# Altium schematic symbol library kmilo17pet-TI_BattMgmt.SchLib: 950 symbols (part 8 of 60)
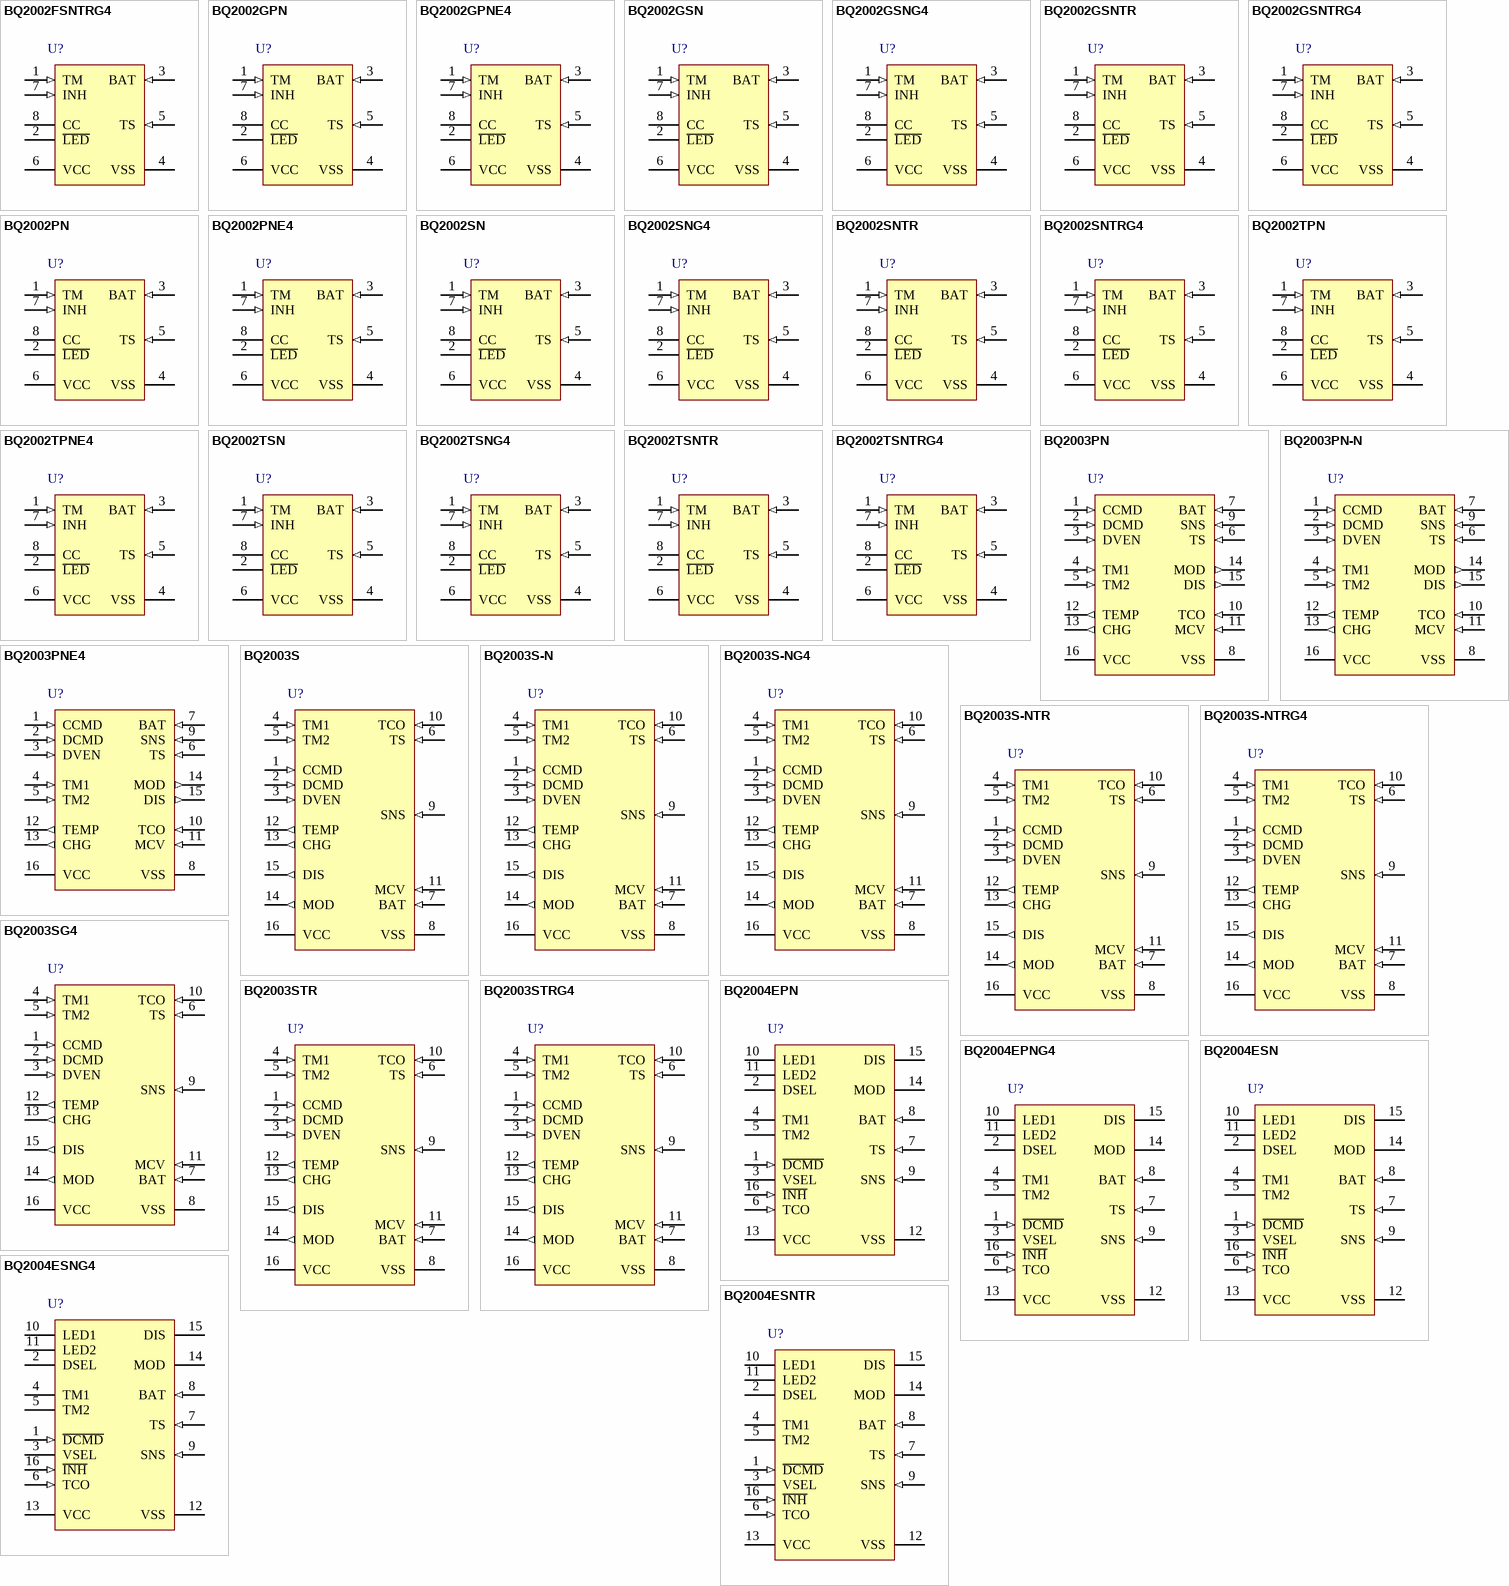
[diagram p41: symbols BQ2002FSNTRG4 to BQ2004ESNTR]

## BQ2002TPNE4
designator U?
NiCd / NiMH Charge Controller with dT/ dt Termination, 4 V, 0 to 70 degC, 8-pin PDIP (P), Pb-Free (RoHS); PartNumber: BQ2002TPNE4; Manufacturer: Texas Instruments; Lead Acid: N; NiCd: Y; SubFamily: Battery Charge Management; Vin(Min)(V): 4; DatasheetVersion: SLUS133; PackageVersion: revE, Apr-2010; PackageReference: P8; PackageDescription: 8-Pin Plastic Dual-In-Line Package, Row Spacing 7.62 mm, Pitch 2.54 mm; Supplier 1: Digi-Key; Supplier Part Number 1: BQ2002TPNE4-ND; Supplier Part Number 3: 595-BQ2002TPNE4; Eco-Plan: Pb-Free (RoHS); Li-Ion: N; Li-Polymer: N; NiMH: Y; Over Voltage Protection: N; Mounting Technology: Through Hole; Code_JEDEC: MS-001-BA; ComponentLink1Description: Datasheet; ComponentLink1URL: http://www.ti.com/general/docs/lit/getliterature.tsp?genericPartNumber=BQ2002T&fileType=pdf
footprint P8 (DIP, 8-Leads, Row Spacing 7.62mm, Pitch 2.54mm, Body 9.6x6.4mm)
pins: 1 TM (in) "Timer mode input. A three-level input that controls the settings for the fast charge safety timer, voltage termination mode, top-off, pulse-trickle, and voltage hold-off time.", 2 ~{LED} (hiz) "Charging output status. Open-drain output that indicates the charging status.", 3 BAT (in) "Battery input voltage. The battery voltage sense input. The input to this pin is created by a high-impedance resistor divider network connected between the positive and negative terminals of the battery.", 4 VSS (power) "System ground.", 5 TS (in) "Temperature sense input. Input for an external battery temperature monitoring thermistor.", 6 VCC (power) "Supply voltage input. 5.0V+/-20% power input.", 7 INH (in) "Charge inhibit input. When high, INH suspends the fast charge in progress. When returned low, the IC resumes operation at the point where initially suspended.", 8 CC (hiz) "Charge control output. An open-drain output used to control the charging current to the battery. CC switching to high impedance (Z) enables charging current to flow, and low to inhibit charging current. CC is modulated to (See Datasheet)"

## BQ2002TSN
designator U?
NiCd / NiMH Charge Controller with dT / dt Termination, 4 V, 0 to 70 degC, 8-pin SOIC (D), Green (RoHS & no Sb/Br); PartNumber: BQ2002TSN; Manufacturer: Texas Instruments; Lead Acid: N; NiCd: Y; SubFamily: Battery Charge Management; Vin(Min)(V): 4; DatasheetVersion: SLUS133; PackageVersion: revM, Jun-2011; PackageReference: D8; PackageDescription: 8-Pin Plastic Small Outline Integrated Circuit, 4.9 x 3.9 mm, Pitch 1.27 mm Pitch; Supplier 1: Digi-Key; Supplier Part Number 1: 296-9329-5-ND; Supplier Part Number 3: 74C7527; Eco-Plan: Green (RoHS & no Sb/Br); Li-Ion: N; Li-Polymer: N; NiMH: Y; Over Voltage Protection: N; Mounting Technology: Surface Mount; Code_JEDEC: MS-012AA; ComponentLink1Description: Datasheet; ComponentLink1URL: http://www.ti.com/general/docs/lit/getliterature.tsp?genericPartNumber=BQ2002T&fileType=pdf
footprint D8_N (SOIC, 8-Leads, Body 4.9x3.9mm, Pitch 1.27mm, IPC Medium Density)
footprint D8_L (SOIC, 8-Leads, Body 4.9x3.9mm, Pitch 1.27mm, IPC High Density)
footprint D8_M (SOIC, 8-Leads, Body 4.9x3.9mm, Pitch 1.27mm, IPC Low Density)
pins: 1 TM (in) "Timer mode input. A three-level input that controls the settings for the fast charge safety timer, voltage termination mode, top-off, pulse-trickle, and voltage hold-off time.", 2 ~{LED} (hiz) "Charging output status. Open-drain output that indicates the charging status.", 3 BAT (in) "Battery input voltage. The battery voltage sense input. The input to this pin is created by a high-impedance resistor divider network connected between the positive and negative terminals of the battery.", 4 VSS (power) "System ground.", 5 TS (in) "Temperature sense input. Input for an external battery temperature monitoring thermistor.", 6 VCC (power) "Supply voltage input. 5.0V+/-20% power input.", 7 INH (in) "Charge inhibit input. When high, INH suspends the fast charge in progress. When returned low, the IC resumes operation at the point where initially suspended.", 8 CC (hiz) "Charge control output. An open-drain output used to control the charging current to the battery. CC switching to high impedance (Z) enables charging current to flow, and low to inhibit charging current. CC is modulated to (See Datasheet)"

## BQ2002TSNG4
designator U?
NiCd / NiMH Charge Controller with dT / dt Termination, 4 V, 0 to 70 degC, 8-pin SOIC (D), Green (RoHS & no Sb/Br); PartNumber: BQ2002TSNG4; Manufacturer: Texas Instruments; Lead Acid: N; NiCd: Y; SubFamily: Battery Charge Management; Vin(Min)(V): 4; DatasheetVersion: SLUS133; PackageVersion: revM, Jun-2011; PackageReference: D8; PackageDescription: 8-Pin Plastic Small Outline Integrated Circuit, 4.9 x 3.9 mm, Pitch 1.27 mm Pitch; Supplier 1: Digi-Key; Supplier Part Number 1: BQ2002TSNG4-ND; Supplier Part Number 3: 595-BQ2002TSNG4; Eco-Plan: Green (RoHS & no Sb/Br); Li-Ion: N; Li-Polymer: N; NiMH: Y; Over Voltage Protection: N; Mounting Technology: Surface Mount; Code_JEDEC: MS-012AA; ComponentLink1Description: Datasheet; ComponentLink1URL: http://www.ti.com/general/docs/lit/getliterature.tsp?genericPartNumber=BQ2002T&fileType=pdf
footprint D8_N (SOIC, 8-Leads, Body 4.9x3.9mm, Pitch 1.27mm, IPC Medium Density)
footprint D8_L (SOIC, 8-Leads, Body 4.9x3.9mm, Pitch 1.27mm, IPC High Density)
footprint D8_M (SOIC, 8-Leads, Body 4.9x3.9mm, Pitch 1.27mm, IPC Low Density)
pins: 1 TM (in) "Timer mode input. A three-level input that controls the settings for the fast charge safety timer, voltage termination mode, top-off, pulse-trickle, and voltage hold-off time.", 2 ~{LED} (hiz) "Charging output status. Open-drain output that indicates the charging status.", 3 BAT (in) "Battery input voltage. The battery voltage sense input. The input to this pin is created by a high-impedance resistor divider network connected between the positive and negative terminals of the battery.", 4 VSS (power) "System ground.", 5 TS (in) "Temperature sense input. Input for an external battery temperature monitoring thermistor.", 6 VCC (power) "Supply voltage input. 5.0V+/-20% power input.", 7 INH (in) "Charge inhibit input. When high, INH suspends the fast charge in progress. When returned low, the IC resumes operation at the point where initially suspended.", 8 CC (hiz) "Charge control output. An open-drain output used to control the charging current to the battery. CC switching to high impedance (Z) enables charging current to flow, and low to inhibit charging current. CC is modulated to (See Datasheet)"

## BQ2002TSNTR
designator U?
NiCd / NiMH Charge Controller with dT / dt Termination, 4 V, 0 to 70 degC, 8-pin SOIC (D), Green (RoHS & no Sb/Br); PartNumber: BQ2002TSNTR; Manufacturer: Texas Instruments; Lead Acid: N; NiCd: Y; SubFamily: Battery Charge Management; Vin(Min)(V): 4; DatasheetVersion: SLUS133; PackageVersion: revM, Jun-2011; PackageReference: D8; PackageDescription: 8-Pin Plastic Small Outline Integrated Circuit, 4.9 x 3.9 mm, Pitch 1.27 mm Pitch; Supplier 1: Digi-Key; Supplier Part Number 1: BQ2002TSNTR-ND; Supplier Part Number 3: 595-BQ2002TSNTR; Eco-Plan: Green (RoHS & no Sb/Br); Li-Ion: N; Li-Polymer: N; NiMH: Y; Over Voltage Protection: N; Mounting Technology: Surface Mount; Code_JEDEC: MS-012AA; ComponentLink1Description: Datasheet; ComponentLink1URL: http://www.ti.com/general/docs/lit/getliterature.tsp?genericPartNumber=BQ2002T&fileType=pdf
footprint D8_N (SOIC, 8-Leads, Body 4.9x3.9mm, Pitch 1.27mm, IPC Medium Density)
footprint D8_L (SOIC, 8-Leads, Body 4.9x3.9mm, Pitch 1.27mm, IPC High Density)
footprint D8_M (SOIC, 8-Leads, Body 4.9x3.9mm, Pitch 1.27mm, IPC Low Density)
pins: 1 TM (in) "Timer mode input. A three-level input that controls the settings for the fast charge safety timer, voltage termination mode, top-off, pulse-trickle, and voltage hold-off time.", 2 ~{LED} (hiz) "Charging output status. Open-drain output that indicates the charging status.", 3 BAT (in) "Battery input voltage. The battery voltage sense input. The input to this pin is created by a high-impedance resistor divider network connected between the positive and negative terminals of the battery.", 4 VSS (power) "System ground.", 5 TS (in) "Temperature sense input. Input for an external battery temperature monitoring thermistor.", 6 VCC (power) "Supply voltage input. 5.0V+/-20% power input.", 7 INH (in) "Charge inhibit input. When high, INH suspends the fast charge in progress. When returned low, the IC resumes operation at the point where initially suspended.", 8 CC (hiz) "Charge control output. An open-drain output used to control the charging current to the battery. CC switching to high impedance (Z) enables charging current to flow, and low to inhibit charging current. CC is modulated to (See Datasheet)"

## BQ2002TSNTRG4
designator U?
NiCd / NiMH Charge Controller with dT / dt Termination, 4 V, 0 to 70 degC, 8-pin SOIC (D), Green (RoHS & no Sb/Br); PartNumber: BQ2002TSNTRG4; Manufacturer: Texas Instruments; Lead Acid: N; NiCd: Y; SubFamily: Battery Charge Management; Vin(Min)(V): 4; DatasheetVersion: SLUS133; PackageVersion: revM, Jun-2011; PackageReference: D8; PackageDescription: 8-Pin Plastic Small Outline Integrated Circuit, 4.9 x 3.9 mm, Pitch 1.27 mm Pitch; Supplier 1: Digi-Key; Supplier Part Number 1: BQ2002TSNTRG4-ND; Supplier Part Number 3: 595-BQ2002TSNTRG4; Eco-Plan: Green (RoHS & no Sb/Br); Li-Ion: N; Li-Polymer: N; NiMH: Y; Over Voltage Protection: N; Mounting Technology: Surface Mount; Code_JEDEC: MS-012AA; ComponentLink1Description: Datasheet; ComponentLink1URL: http://www.ti.com/general/docs/lit/getliterature.tsp?genericPartNumber=BQ2002T&fileType=pdf
footprint D8_N (SOIC, 8-Leads, Body 4.9x3.9mm, Pitch 1.27mm, IPC Medium Density)
footprint D8_L (SOIC, 8-Leads, Body 4.9x3.9mm, Pitch 1.27mm, IPC High Density)
footprint D8_M (SOIC, 8-Leads, Body 4.9x3.9mm, Pitch 1.27mm, IPC Low Density)
pins: 1 TM (in) "Timer mode input. A three-level input that controls the settings for the fast charge safety timer, voltage termination mode, top-off, pulse-trickle, and voltage hold-off time.", 2 ~{LED} (hiz) "Charging output status. Open-drain output that indicates the charging status.", 3 BAT (in) "Battery input voltage. The battery voltage sense input. The input to this pin is created by a high-impedance resistor divider network connected between the positive and negative terminals of the battery.", 4 VSS (power) "System ground.", 5 TS (in) "Temperature sense input. Input for an external battery temperature monitoring thermistor.", 6 VCC (power) "Supply voltage input. 5.0V+/-20% power input.", 7 INH (in) "Charge inhibit input. When high, INH suspends the fast charge in progress. When returned low, the IC resumes operation at the point where initially suspended.", 8 CC (hiz) "Charge control output. An open-drain output used to control the charging current to the battery. CC switching to high impedance (Z) enables charging current to flow, and low to inhibit charging current. CC is modulated to (See Datasheet)"

## BQ2003PN
designator U?
Switch-Mode NiCd / NiMH Battery Charger with Negative dV and dT / dt Termination, 4.5 V, 0 to 70 degC, 16-pin PDIP (N), Pb-Free (RoHS); PartNumber: BQ2003PN; Manufacturer: Texas Instruments; NiCd: Y; SubFamily: Battery Charge Management; Vin(Min)(V): 4.5; DatasheetVersion: SLUS095A; PackageVersion: revE, Dec-2002; PackageReference: N16; PackageDescription: 16-Pin Plastic Dual-In-Line Package, Row Spacing 7.62 mm, Pitch 2.54 mm; Supplier 1: Digi-Key; Supplier Part Number 1: 296-9330-5-ND; Supplier Part Number 3: 67T1028; Eco-Plan: Pb-Free (RoHS); Lead Acid: N; Li-Ion: N; Li-Polymer: N; NiMH: Y; Over Voltage Protection: N; Mounting Technology: Through Hole; Code_JEDEC: MS-001*; ComponentLink1Description: Datasheet; ComponentLink1URL: http://www.ti.com/general/docs/lit/getliterature.tsp?genericPartNumber=BQ2003&fileType=pdf
footprint N16 (DIP, 16-Leads, Row Spacing 7.62mm, Pitch 2.54mm, Body 19.3x6.4mm)
pins: 1 CCMD (in) "This input control the conditions that begin a new charge cycle and enable discharge-before-charge. See Table 1.", 2 DCMD (in) "This input control the conditions that begin a new charge cycle and enable discharge-before-charge. See Table 1.", 3 DVEN (in) "This input enales/disables -deltaV charge termination.If DVEN is high, the -deltaV test is enabled.If DVEN is low, -deltaV test is disabled. The state of DVEN may be changed at any time.", 4 TM1 (in) "TM1 is three-state input that configure the fast charge safety timer, -deltaV holdoff time, and that enhance/disable top-off.See Table 2.", 5 TM2 (in) "TM2 is three-state input that configure the fast charge safety timer, -deltaV holdoff time, and that enhance/disable top-off.See Table 2.", 6 TS (in) "Input, referenced to SNS, for an external thermistor monitoring battery temperature.", 7 BAT (in) "The battery voltage sense input, referenced to SNS. This is created by a high-impedance resistor divider network connected between the positive and the negative terminals of the battery.", 8 VSS (power) "Ground", 9 SNS (in) "SNS controls the switching of MOD based on the voltage across an external sense resistor in the current path of the battery. SNS is the reference potential for the TS and BAT pins.If SNS is connected to VSS, MOD switches (See Datasheet)", 10 TCO (in) "Input to set maximum allowable battery temperature. If the potential between TS and SNS is less than the voltage at the TCO input, then fast charge or top-off charge is terminated.", 11 MCV (in) "Input to set maximum single-cell equivalent voltage. If the voltage between BAT and SNS is greater than or equal to the voltage at the MCV input, then fast charge or top-off charge is inhibited.", 12 TEMP (out) "Push-pull output indicating temperature status. TEMP is low if the voltage at the TS pis not within the allowed range to start fast charge.", 13 CHG (out) "Push-pull output indicating charging status.See Figure 1.", 14 MOD (out) "MOD is a push/pull output that is used to control the charging current to the battery.MOD switches high to enable charging current flow and low to inhibit charging current flow.", 15 DIS (out) "Push-pull output used to control an external transistor to discharge the battery before charging.", 16 VCC (power) "5.0 V, +/-10% power input."

## BQ2003PN-N
designator U?
Switch-Mode NiCd / NiMH Battery Charger with Negative dV and dT / dt Termination, 4.5 V, -40 to 85 degC, 16-pin PDIP (N), Pb-Free (RoHS); PartNumber: BQ2003PN-N; Manufacturer: Texas Instruments; NiCd: Y; SubFamily: Battery Charge Management; Vin(Min)(V): 4.5; DatasheetVersion: SLUS095A; PackageVersion: revE, Dec-2002; PackageReference: N16; PackageDescription: 16-Pin Plastic Dual-In-Line Package, Row Spacing 7.62 mm, Pitch 2.54 mm; Supplier 1: Digi-Key; Supplier Part Number 1: 296-32831-5-ND; Supplier Part Number 3: 595-BQ2003PN-N; Eco-Plan: Pb-Free (RoHS); Lead Acid: N; Li-Ion: N; Li-Polymer: N; NiMH: Y; Over Voltage Protection: N; Mounting Technology: Through Hole; Code_JEDEC: MS-001*; ComponentLink1Description: Datasheet; ComponentLink1URL: http://www.ti.com/general/docs/lit/getliterature.tsp?genericPartNumber=BQ2003&fileType=pdf
footprint N16 (DIP, 16-Leads, Row Spacing 7.62mm, Pitch 2.54mm, Body 19.3x6.4mm)
pins: 1 CCMD (in) "This input control the conditions that begin a new charge cycle and enable discharge-before-charge. See Table 1.", 2 DCMD (in) "This input control the conditions that begin a new charge cycle and enable discharge-before-charge. See Table 1.", 3 DVEN (in) "This input enales/disables -deltaV charge termination.If DVEN is high, the -deltaV test is enabled.If DVEN is low, -deltaV test is disabled. The state of DVEN may be changed at any time.", 4 TM1 (in) "TM1 is three-state input that configure the fast charge safety timer, -deltaV holdoff time, and that enhance/disable top-off.See Table 2.", 5 TM2 (in) "TM2 is three-state input that configure the fast charge safety timer, -deltaV holdoff time, and that enhance/disable top-off.See Table 2.", 6 TS (in) "Input, referenced to SNS, for an external thermistor monitoring battery temperature.", 7 BAT (in) "The battery voltage sense input, referenced to SNS. This is created by a high-impedance resistor divider network connected between the positive and the negative terminals of the battery.", 8 VSS (power) "Ground", 9 SNS (in) "SNS controls the switching of MOD based on the voltage across an external sense resistor in the current path of the battery. SNS is the reference potential for the TS and BAT pins.If SNS is connected to VSS, MOD switches (See Datasheet)", 10 TCO (in) "Input to set maximum allowable battery temperature. If the potential between TS and SNS is less than the voltage at the TCO input, then fast charge or top-off charge is terminated.", 11 MCV (in) "Input to set maximum single-cell equivalent voltage. If the voltage between BAT and SNS is greater than or equal to the voltage at the MCV input, then fast charge or top-off charge is inhibited.", 12 TEMP (out) "Push-pull output indicating temperature status. TEMP is low if the voltage at the TS pis not within the allowed range to start fast charge.", 13 CHG (out) "Push-pull output indicating charging status.See Figure 1.", 14 MOD (out) "MOD is a push/pull output that is used to control the charging current to the battery.MOD switches high to enable charging current flow and low to inhibit charging current flow.", 15 DIS (out) "Push-pull output used to control an external transistor to discharge the battery before charging.", 16 VCC (power) "5.0 V, +/-10% power input."

## BQ2003PNE4
designator U?
Switch-Mode NiCd / NiMH Battery Charger with Negative dV and dT / dt Termination, 4.5 V, 0 to 70 degC, 16-pin PDIP (N), Pb-Free (RoHS); PartNumber: BQ2003PNE4; Manufacturer: Texas Instruments; NiCd: Y; SubFamily: Battery Charge Management; Vin(Min)(V): 4.5; DatasheetVersion: SLUS095A; PackageVersion: revE, Dec-2002; PackageReference: N16; PackageDescription: 16-Pin Plastic Dual-In-Line Package, Row Spacing 7.62 mm, Pitch 2.54 mm; Supplier 1: Digi-Key; Supplier Part Number 1: BQ2003PNE4-ND; Supplier Part Number 3: 595-BQ2003PNE4; Eco-Plan: Pb-Free (RoHS); Lead Acid: N; Li-Ion: N; Li-Polymer: N; NiMH: Y; Over Voltage Protection: N; Mounting Technology: Through Hole; Code_JEDEC: MS-001*; ComponentLink1Description: Datasheet; ComponentLink1URL: http://www.ti.com/general/docs/lit/getliterature.tsp?genericPartNumber=BQ2003&fileType=pdf
footprint N16 (DIP, 16-Leads, Row Spacing 7.62mm, Pitch 2.54mm, Body 19.3x6.4mm)
pins: 1 CCMD (in) "This input control the conditions that begin a new charge cycle and enable discharge-before-charge. See Table 1.", 2 DCMD (in) "This input control the conditions that begin a new charge cycle and enable discharge-before-charge. See Table 1.", 3 DVEN (in) "This input enales/disables -deltaV charge termination.If DVEN is high, the -deltaV test is enabled.If DVEN is low, -deltaV test is disabled. The state of DVEN may be changed at any time.", 4 TM1 (in) "TM1 is three-state input that configure the fast charge safety timer, -deltaV holdoff time, and that enhance/disable top-off.See Table 2.", 5 TM2 (in) "TM2 is three-state input that configure the fast charge safety timer, -deltaV holdoff time, and that enhance/disable top-off.See Table 2.", 6 TS (in) "Input, referenced to SNS, for an external thermistor monitoring battery temperature.", 7 BAT (in) "The battery voltage sense input, referenced to SNS. This is created by a high-impedance resistor divider network connected between the positive and the negative terminals of the battery.", 8 VSS (power) "Ground", 9 SNS (in) "SNS controls the switching of MOD based on the voltage across an external sense resistor in the current path of the battery. SNS is the reference potential for the TS and BAT pins.If SNS is connected to VSS, MOD switches (See Datasheet)", 10 TCO (in) "Input to set maximum allowable battery temperature. If the potential between TS and SNS is less than the voltage at the TCO input, then fast charge or top-off charge is terminated.", 11 MCV (in) "Input to set maximum single-cell equivalent voltage. If the voltage between BAT and SNS is greater than or equal to the voltage at the MCV input, then fast charge or top-off charge is inhibited.", 12 TEMP (out) "Push-pull output indicating temperature status. TEMP is low if the voltage at the TS pis not within the allowed range to start fast charge.", 13 CHG (out) "Push-pull output indicating charging status.See Figure 1.", 14 MOD (out) "MOD is a push/pull output that is used to control the charging current to the battery.MOD switches high to enable charging current flow and low to inhibit charging current flow.", 15 DIS (out) "Push-pull output used to control an external transistor to discharge the battery before charging.", 16 VCC (power) "5.0 V, +/-10% power input."

## BQ2003S
designator U?
Switch-Mode NiCd / NiMH Battery Charger with Negative dV and dT / dt Termination, 4.5 V, 0 to 70 degC, 16-pin SOIC (DW), Green (RoHS & no Sb/Br); PartNumber: BQ2003S; Manufacturer: Texas Instruments; Lead Acid: N; NiCd: Y; SubFamily: Battery Charge Management; Vin(Min)(V): 4.5; DatasheetVersion: SLUS095A; PackageVersion: revG, Jan-2011; PackageReference: DW16; PackageDescription: 16-Pin Small Outline Integrated Circuit, 10.3 x 7.5 mm, Pitch 1.27 mm Pitch; Supplier 1: Digi-Key; Supplier Part Number 1: 296-9331-5-ND; Supplier Part Number 3: 595-BQ2003S; Eco-Plan: Green (RoHS & no Sb/Br); Li-Ion: N; Li-Polymer: N; NiMH: Y; Over Voltage Protection: N; Mounting Technology: Surface Mount; Code_JEDEC: MS-013-AA; ComponentLink1Description: Datasheet; ComponentLink1URL: http://www.ti.com/general/docs/lit/getliterature.tsp?genericPartNumber=BQ2003&fileType=pdf
footprint DW16_N (SOIC, 16-Leads, Body 10.3x7.5mm, Pitch 1.27mm, IPC Medium Density)
footprint DW16_L (SOIC, 16-Leads, Body 10.3x7.5mm, Pitch 1.27mm, IPC High Density)
footprint DW16_M (SOIC, 16-Leads, Body 10.3x7.5mm, Pitch 1.27mm, IPC Low Density)
pins: 1 CCMD (in) "These two inputs control the conditions that begin a new charge cycle and enable discharge-before-charge. See Table 1.", 2 DCMD (in) "These two inputs control the conditions that begin a new charge cycle and enable discharge-before-charge. See Table 1.", 3 DVEN (in) "This input enales/disables -deltaV charge termination.If DVEN is high, the -deltaV test is enabled.If DVEN is low, -deltaV test is disabled. The state of DVEN may be changed at any time.", 4 TM1 (in) "TM1 is three-state input that configure the fast charge safety timer, -deltaV holdoff time, and that enhance/disable top-off.See Table 2.", 5 TM2 (in) "TM2 is three-state input that configure the fast charge safety timer, -deltaV holdoff time, and that enhance/disable top-off.See Table 2.", 6 TS (in) "Input, referenced to SNS, for an external thermistor monitoring battery temperature.", 7 BAT (in) "The battery voltage sense input, referenced to SNS. This is created by a high-impedance resistor divider network connected between the positive and the negative terminals of the battery.", 8 VSS (power) "Ground", 9 SNS (in) "SNS controls the switching of MOD based on the voltage across an external sense resistor in the current path of the battery. SNS is the reference potential for the TS and BAT pins.If SNS is connected to VSS, MOD switches (See Datasheet)", 10 TCO (in) "Input to set maximum allowable battery temperature. If the potential between TS and SNS is less than the voltage at the TCO input, then fast charge or top-off charge is terminated.", 11 MCV (in) "Input to set maximum single-cell equivalent voltage. If the voltage between BAT and SNS is greater than or equal to the voltage at the MCV input, then fast charge or top-off charge is inhibited.", 12 TEMP (out) "Push-pull output indicating temperature status. TEMP is low if the voltage at the TS pis not within the allowed range to start fast charge.", 13 CHG (out) "Push-pull output indicating charging status.See Figure 1.", 14 MOD (out) "MOD is a push/pull output that is used to control the charging current to the battery.MOD switches high to enable charging current flow and low to inhibit charging current flow.", 15 DIS (out) "Push-pull output used to control an external transistor to discharge the battery before charging.", 16 VCC (power) "5.0 V, +/-10% power input."

## BQ2003S-N
designator U?
Switch-Mode NiCd / NiMH Battery Charger with Negative dV and dT / dt Termination, 4.5 V, -40 to 85 degC, 16-pin SOIC (DW), Green (RoHS & no Sb/Br); PartNumber: BQ2003S-N; Manufacturer: Texas Instruments; Lead Acid: N; NiCd: Y; SubFamily: Battery Charge Management; Vin(Min)(V): 4.5; DatasheetVersion: SLUS095A; PackageVersion: revG, Jan-2011; PackageReference: DW16; PackageDescription: 16-Pin Small Outline Integrated Circuit, 10.3 x 7.5 mm, Pitch 1.27 mm Pitch; Supplier 1: Digi-Key; Supplier Part Number 1: 296-32832-5-ND; Supplier Part Number 3: 23M5237; Eco-Plan: Green (RoHS & no Sb/Br); Li-Ion: N; Li-Polymer: N; NiMH: Y; Over Voltage Protection: N; Mounting Technology: Surface Mount; Code_JEDEC: MS-013-AA; ComponentLink1Description: Datasheet; ComponentLink1URL: http://www.ti.com/general/docs/lit/getliterature.tsp?genericPartNumber=BQ2003&fileType=pdf
footprint DW16_N (SOIC, 16-Leads, Body 10.3x7.5mm, Pitch 1.27mm, IPC Medium Density)
footprint DW16_L (SOIC, 16-Leads, Body 10.3x7.5mm, Pitch 1.27mm, IPC High Density)
footprint DW16_M (SOIC, 16-Leads, Body 10.3x7.5mm, Pitch 1.27mm, IPC Low Density)
pins: 1 CCMD (in) "These two inputs control the conditions that begin a new charge cycle and enable discharge-before-charge. See Table 1.", 2 DCMD (in) "These two inputs control the conditions that begin a new charge cycle and enable discharge-before-charge. See Table 1.", 3 DVEN (in) "This input enales/disables -deltaV charge termination.If DVEN is high, the -deltaV test is enabled.If DVEN is low, -deltaV test is disabled. The state of DVEN may be changed at any time.", 4 TM1 (in) "TM1 is three-state input that configure the fast charge safety timer, -deltaV holdoff time, and that enhance/disable top-off.See Table 2.", 5 TM2 (in) "TM2 is three-state input that configure the fast charge safety timer, -deltaV holdoff time, and that enhance/disable top-off.See Table 2.", 6 TS (in) "Input, referenced to SNS, for an external thermistor monitoring battery temperature.", 7 BAT (in) "The battery voltage sense input, referenced to SNS. This is created by a high-impedance resistor divider network connected between the positive and the negative terminals of the battery.", 8 VSS (power) "Ground", 9 SNS (in) "SNS controls the switching of MOD based on the voltage across an external sense resistor in the current path of the battery. SNS is the reference potential for the TS and BAT pins.If SNS is connected to VSS, MOD switches (See Datasheet)", 10 TCO (in) "Input to set maximum allowable battery temperature. If the potential between TS and SNS is less than the voltage at the TCO input, then fast charge or top-off charge is terminated.", 11 MCV (in) "Input to set maximum single-cell equivalent voltage. If the voltage between BAT and SNS is greater than or equal to the voltage at the MCV input, then fast charge or top-off charge is inhibited.", 12 TEMP (out) "Push-pull output indicating temperature status. TEMP is low if the voltage at the TS pis not within the allowed range to start fast charge.", 13 CHG (out) "Push-pull output indicating charging status.See Figure 1.", 14 MOD (out) "MOD is a push/pull output that is used to control the charging current to the battery.MOD switches high to enable charging current flow and low to inhibit charging current flow.", 15 DIS (out) "Push-pull output used to control an external transistor to discharge the battery before charging.", 16 VCC (power) "5.0 V, +/-10% power input."

## BQ2003S-NG4
designator U?
Switch-Mode NiCd / NiMH Battery Charger with Negative dV and dT / dt Termination, 4.5 V, -40 to 85 degC, 16-pin SOIC (DW), Green (RoHS & no Sb/Br); PartNumber: BQ2003S-NG4; Manufacturer: Texas Instruments; Lead Acid: N; NiCd: Y; SubFamily: Battery Charge Management; Vin(Min)(V): 4.5; DatasheetVersion: SLUS095A; PackageVersion: revG, Jan-2011; PackageReference: DW16; PackageDescription: 16-Pin Small Outline Integrated Circuit, 10.3 x 7.5 mm, Pitch 1.27 mm Pitch; Supplier 1: Digi-Key; Supplier Part Number 1: BQ2003S-NG4-ND; Supplier Part Number 3: 595-BQ2003S-NG4; Eco-Plan: Green (RoHS & no Sb/Br); Li-Ion: N; Li-Polymer: N; NiMH: Y; Over Voltage Protection: N; Mounting Technology: Surface Mount; Code_JEDEC: MS-013-AA; ComponentLink1Description: Datasheet; ComponentLink1URL: http://www.ti.com/general/docs/lit/getliterature.tsp?genericPartNumber=BQ2003&fileType=pdf
footprint DW16_N (SOIC, 16-Leads, Body 10.3x7.5mm, Pitch 1.27mm, IPC Medium Density)
footprint DW16_L (SOIC, 16-Leads, Body 10.3x7.5mm, Pitch 1.27mm, IPC High Density)
footprint DW16_M (SOIC, 16-Leads, Body 10.3x7.5mm, Pitch 1.27mm, IPC Low Density)
pins: 1 CCMD (in) "These two inputs control the conditions that begin a new charge cycle and enable discharge-before-charge. See Table 1.", 2 DCMD (in) "These two inputs control the conditions that begin a new charge cycle and enable discharge-before-charge. See Table 1.", 3 DVEN (in) "This input enales/disables -deltaV charge termination.If DVEN is high, the -deltaV test is enabled.If DVEN is low, -deltaV test is disabled. The state of DVEN may be changed at any time.", 4 TM1 (in) "TM1 is three-state input that configure the fast charge safety timer, -deltaV holdoff time, and that enhance/disable top-off.See Table 2.", 5 TM2 (in) "TM2 is three-state input that configure the fast charge safety timer, -deltaV holdoff time, and that enhance/disable top-off.See Table 2.", 6 TS (in) "Input, referenced to SNS, for an external thermistor monitoring battery temperature.", 7 BAT (in) "The battery voltage sense input, referenced to SNS. This is created by a high-impedance resistor divider network connected between the positive and the negative terminals of the battery.", 8 VSS (power) "Ground", 9 SNS (in) "SNS controls the switching of MOD based on the voltage across an external sense resistor in the current path of the battery. SNS is the reference potential for the TS and BAT pins.If SNS is connected to VSS, MOD switches (See Datasheet)", 10 TCO (in) "Input to set maximum allowable battery temperature. If the potential between TS and SNS is less than the voltage at the TCO input, then fast charge or top-off charge is terminated.", 11 MCV (in) "Input to set maximum single-cell equivalent voltage. If the voltage between BAT and SNS is greater than or equal to the voltage at the MCV input, then fast charge or top-off charge is inhibited.", 12 TEMP (out) "Push-pull output indicating temperature status. TEMP is low if the voltage at the TS pis not within the allowed range to start fast charge.", 13 CHG (out) "Push-pull output indicating charging status.See Figure 1.", 14 MOD (out) "MOD is a push/pull output that is used to control the charging current to the battery.MOD switches high to enable charging current flow and low to inhibit charging current flow.", 15 DIS (out) "Push-pull output used to control an external transistor to discharge the battery before charging.", 16 VCC (power) "5.0 V, +/-10% power input."

## BQ2003S-NTR
designator U?
Switch-Mode NiCd / NiMH Battery Charger with Negative dV and dT / dt Termination, 4.5 V, -40 to 85 degC, 16-pin SOIC (DW), Green (RoHS & no Sb/Br); PartNumber: BQ2003S-NTR; Manufacturer: Texas Instruments; Lead Acid: N; NiCd: Y; SubFamily: Battery Charge Management; Vin(Min)(V): 4.5; DatasheetVersion: SLUS095A; PackageVersion: revG, Jan-2011; PackageReference: DW16; PackageDescription: 16-Pin Small Outline Integrated Circuit, 10.3 x 7.5 mm, Pitch 1.27 mm Pitch; Supplier 1: Digi-Key; Supplier Part Number 1: BQ2003S-NTR-ND; Supplier Part Number 3: 595-BQ2003S-NTR; Eco-Plan: Green (RoHS & no Sb/Br); Li-Ion: N; Li-Polymer: N; NiMH: Y; Over Voltage Protection: N; Mounting Technology: Surface Mount; Code_JEDEC: MS-013-AA; ComponentLink1Description: Datasheet; ComponentLink1URL: http://www.ti.com/general/docs/lit/getliterature.tsp?genericPartNumber=BQ2003&fileType=pdf
footprint DW16_N (SOIC, 16-Leads, Body 10.3x7.5mm, Pitch 1.27mm, IPC Medium Density)
footprint DW16_L (SOIC, 16-Leads, Body 10.3x7.5mm, Pitch 1.27mm, IPC High Density)
footprint DW16_M (SOIC, 16-Leads, Body 10.3x7.5mm, Pitch 1.27mm, IPC Low Density)
pins: 1 CCMD (in) "These two inputs control the conditions that begin a new charge cycle and enable discharge-before-charge. See Table 1.", 2 DCMD (in) "These two inputs control the conditions that begin a new charge cycle and enable discharge-before-charge. See Table 1.", 3 DVEN (in) "This input enales/disables -deltaV charge termination.If DVEN is high, the -deltaV test is enabled.If DVEN is low, -deltaV test is disabled. The state of DVEN may be changed at any time.", 4 TM1 (in) "TM1 is three-state input that configure the fast charge safety timer, -deltaV holdoff time, and that enhance/disable top-off.See Table 2.", 5 TM2 (in) "TM2 is three-state input that configure the fast charge safety timer, -deltaV holdoff time, and that enhance/disable top-off.See Table 2.", 6 TS (in) "Input, referenced to SNS, for an external thermistor monitoring battery temperature.", 7 BAT (in) "The battery voltage sense input, referenced to SNS. This is created by a high-impedance resistor divider network connected between the positive and the negative terminals of the battery.", 8 VSS (power) "Ground", 9 SNS (in) "SNS controls the switching of MOD based on the voltage across an external sense resistor in the current path of the battery. SNS is the reference potential for the TS and BAT pins.If SNS is connected to VSS, MOD switches (See Datasheet)", 10 TCO (in) "Input to set maximum allowable battery temperature. If the potential between TS and SNS is less than the voltage at the TCO input, then fast charge or top-off charge is terminated.", 11 MCV (in) "Input to set maximum single-cell equivalent voltage. If the voltage between BAT and SNS is greater than or equal to the voltage at the MCV input, then fast charge or top-off charge is inhibited.", 12 TEMP (out) "Push-pull output indicating temperature status. TEMP is low if the voltage at the TS pis not within the allowed range to start fast charge.", 13 CHG (out) "Push-pull output indicating charging status.See Figure 1.", 14 MOD (out) "MOD is a push/pull output that is used to control the charging current to the battery.MOD switches high to enable charging current flow and low to inhibit charging current flow.", 15 DIS (out) "Push-pull output used to control an external transistor to discharge the battery before charging.", 16 VCC (power) "5.0 V, +/-10% power input."

## BQ2003S-NTRG4
designator U?
Switch-Mode NiCd / NiMH Battery Charger with Negative dV and dT / dt Termination, 4.5 V, -40 to 85 degC, 16-pin SOIC (DW), Green (RoHS & no Sb/Br); PartNumber: BQ2003S-NTRG4; Manufacturer: Texas Instruments; Lead Acid: N; NiCd: Y; SubFamily: Battery Charge Management; Vin(Min)(V): 4.5; DatasheetVersion: SLUS095A; PackageVersion: revG, Jan-2011; PackageReference: DW16; PackageDescription: 16-Pin Small Outline Integrated Circuit, 10.3 x 7.5 mm, Pitch 1.27 mm Pitch; Supplier 1: Digi-Key; Supplier Part Number 1: BQ2003S-NTRG4-ND; Supplier Part Number 3: 595-BQ2003S-NTRG4; Eco-Plan: Green (RoHS & no Sb/Br); Li-Ion: N; Li-Polymer: N; NiMH: Y; Over Voltage Protection: N; Mounting Technology: Surface Mount; Code_JEDEC: MS-013-AA; ComponentLink1Description: Datasheet; ComponentLink1URL: http://www.ti.com/general/docs/lit/getliterature.tsp?genericPartNumber=BQ2003&fileType=pdf
footprint DW16_N (SOIC, 16-Leads, Body 10.3x7.5mm, Pitch 1.27mm, IPC Medium Density)
footprint DW16_L (SOIC, 16-Leads, Body 10.3x7.5mm, Pitch 1.27mm, IPC High Density)
footprint DW16_M (SOIC, 16-Leads, Body 10.3x7.5mm, Pitch 1.27mm, IPC Low Density)
pins: 1 CCMD (in) "These two inputs control the conditions that begin a new charge cycle and enable discharge-before-charge. See Table 1.", 2 DCMD (in) "These two inputs control the conditions that begin a new charge cycle and enable discharge-before-charge. See Table 1.", 3 DVEN (in) "This input enales/disables -deltaV charge termination.If DVEN is high, the -deltaV test is enabled.If DVEN is low, -deltaV test is disabled. The state of DVEN may be changed at any time.", 4 TM1 (in) "TM1 is three-state input that configure the fast charge safety timer, -deltaV holdoff time, and that enhance/disable top-off.See Table 2.", 5 TM2 (in) "TM2 is three-state input that configure the fast charge safety timer, -deltaV holdoff time, and that enhance/disable top-off.See Table 2.", 6 TS (in) "Input, referenced to SNS, for an external thermistor monitoring battery temperature.", 7 BAT (in) "The battery voltage sense input, referenced to SNS. This is created by a high-impedance resistor divider network connected between the positive and the negative terminals of the battery.", 8 VSS (power) "Ground", 9 SNS (in) "SNS controls the switching of MOD based on the voltage across an external sense resistor in the current path of the battery. SNS is the reference potential for the TS and BAT pins.If SNS is connected to VSS, MOD switches (See Datasheet)", 10 TCO (in) "Input to set maximum allowable battery temperature. If the potential between TS and SNS is less than the voltage at the TCO input, then fast charge or top-off charge is terminated.", 11 MCV (in) "Input to set maximum single-cell equivalent voltage. If the voltage between BAT and SNS is greater than or equal to the voltage at the MCV input, then fast charge or top-off charge is inhibited.", 12 TEMP (out) "Push-pull output indicating temperature status. TEMP is low if the voltage at the TS pis not within the allowed range to start fast charge.", 13 CHG (out) "Push-pull output indicating charging status.See Figure 1.", 14 MOD (out) "MOD is a push/pull output that is used to control the charging current to the battery.MOD switches high to enable charging current flow and low to inhibit charging current flow.", 15 DIS (out) "Push-pull output used to control an external transistor to discharge the battery before charging.", 16 VCC (power) "5.0 V, +/-10% power input."

## BQ2003SG4
designator U?
Switch-Mode NiCd / NiMH Battery Charger with Negative dV and dT / dt Termination, 4.5 V, 0 to 70 degC, 16-pin SOIC (DW), Green (RoHS & no Sb/Br); PartNumber: BQ2003SG4; Manufacturer: Texas Instruments; Lead Acid: N; NiCd: Y; SubFamily: Battery Charge Management; Vin(Min)(V): 4.5; DatasheetVersion: SLUS095A; PackageVersion: revG, Jan-2011; PackageReference: DW16; PackageDescription: 16-Pin Small Outline Integrated Circuit, 10.3 x 7.5 mm, Pitch 1.27 mm Pitch; Supplier 1: Digi-Key; Supplier Part Number 1: BQ2003SG4-ND; Supplier Part Number 3: 66K1455; Eco-Plan: Green (RoHS & no Sb/Br); Li-Ion: N; Li-Polymer: N; NiMH: Y; Over Voltage Protection: N; Mounting Technology: Surface Mount; Code_JEDEC: MS-013-AA; ComponentLink1Description: Datasheet; ComponentLink1URL: http://www.ti.com/general/docs/lit/getliterature.tsp?genericPartNumber=BQ2003&fileType=pdf
footprint DW16_N (SOIC, 16-Leads, Body 10.3x7.5mm, Pitch 1.27mm, IPC Medium Density)
footprint DW16_L (SOIC, 16-Leads, Body 10.3x7.5mm, Pitch 1.27mm, IPC High Density)
footprint DW16_M (SOIC, 16-Leads, Body 10.3x7.5mm, Pitch 1.27mm, IPC Low Density)
pins: 1 CCMD (in) "These two inputs control the conditions that begin a new charge cycle and enable discharge-before-charge. See Table 1.", 2 DCMD (in) "These two inputs control the conditions that begin a new charge cycle and enable discharge-before-charge. See Table 1.", 3 DVEN (in) "This input enales/disables -deltaV charge termination.If DVEN is high, the -deltaV test is enabled.If DVEN is low, -deltaV test is disabled. The state of DVEN may be changed at any time.", 4 TM1 (in) "TM1 is three-state input that configure the fast charge safety timer, -deltaV holdoff time, and that enhance/disable top-off.See Table 2.", 5 TM2 (in) "TM2 is three-state input that configure the fast charge safety timer, -deltaV holdoff time, and that enhance/disable top-off.See Table 2.", 6 TS (in) "Input, referenced to SNS, for an external thermistor monitoring battery temperature.", 7 BAT (in) "The battery voltage sense input, referenced to SNS. This is created by a high-impedance resistor divider network connected between the positive and the negative terminals of the battery.", 8 VSS (power) "Ground", 9 SNS (in) "SNS controls the switching of MOD based on the voltage across an external sense resistor in the current path of the battery. SNS is the reference potential for the TS and BAT pins.If SNS is connected to VSS, MOD switches (See Datasheet)", 10 TCO (in) "Input to set maximum allowable battery temperature. If the potential between TS and SNS is less than the voltage at the TCO input, then fast charge or top-off charge is terminated.", 11 MCV (in) "Input to set maximum single-cell equivalent voltage. If the voltage between BAT and SNS is greater than or equal to the voltage at the MCV input, then fast charge or top-off charge is inhibited.", 12 TEMP (out) "Push-pull output indicating temperature status. TEMP is low if the voltage at the TS pis not within the allowed range to start fast charge.", 13 CHG (out) "Push-pull output indicating charging status.See Figure 1.", 14 MOD (out) "MOD is a push/pull output that is used to control the charging current to the battery.MOD switches high to enable charging current flow and low to inhibit charging current flow.", 15 DIS (out) "Push-pull output used to control an external transistor to discharge the battery before charging.", 16 VCC (power) "5.0 V, +/-10% power input."

## BQ2003STR
designator U?
Switch-Mode NiCd / NiMH Battery Charger with Negative dV and dT / dt Termination, 4.5 V, 0 to 70 degC, 16-pin SOIC (DW), Green (RoHS & no Sb/Br); PartNumber: BQ2003STR; Manufacturer: Texas Instruments; Lead Acid: N; NiCd: Y; SubFamily: Battery Charge Management; Vin(Min)(V): 4.5; DatasheetVersion: SLUS095A; PackageVersion: revG, Jan-2011; PackageReference: DW16; PackageDescription: 16-Pin Small Outline Integrated Circuit, 10.3 x 7.5 mm, Pitch 1.27 mm Pitch; Supplier 1: Digi-Key; Supplier Part Number 1: BQ2003STR-ND; Supplier Part Number 3: 595-BQ2003STR; Eco-Plan: Green (RoHS & no Sb/Br); Li-Ion: N; Li-Polymer: N; NiMH: Y; Over Voltage Protection: N; Mounting Technology: Surface Mount; Code_JEDEC: MS-013-AA; ComponentLink1Description: Datasheet; ComponentLink1URL: http://www.ti.com/general/docs/lit/getliterature.tsp?genericPartNumber=BQ2003&fileType=pdf
footprint DW16_N (SOIC, 16-Leads, Body 10.3x7.5mm, Pitch 1.27mm, IPC Medium Density)
footprint DW16_L (SOIC, 16-Leads, Body 10.3x7.5mm, Pitch 1.27mm, IPC High Density)
footprint DW16_M (SOIC, 16-Leads, Body 10.3x7.5mm, Pitch 1.27mm, IPC Low Density)
pins: 1 CCMD (in) "These two inputs control the conditions that begin a new charge cycle and enable discharge-before-charge. See Table 1.", 2 DCMD (in) "These two inputs control the conditions that begin a new charge cycle and enable discharge-before-charge. See Table 1.", 3 DVEN (in) "This input enales/disables -deltaV charge termination.If DVEN is high, the -deltaV test is enabled.If DVEN is low, -deltaV test is disabled. The state of DVEN may be changed at any time.", 4 TM1 (in) "TM1 is three-state input that configure the fast charge safety timer, -deltaV holdoff time, and that enhance/disable top-off.See Table 2.", 5 TM2 (in) "TM2 is three-state input that configure the fast charge safety timer, -deltaV holdoff time, and that enhance/disable top-off.See Table 2.", 6 TS (in) "Input, referenced to SNS, for an external thermistor monitoring battery temperature.", 7 BAT (in) "The battery voltage sense input, referenced to SNS. This is created by a high-impedance resistor divider network connected between the positive and the negative terminals of the battery.", 8 VSS (power) "Ground", 9 SNS (in) "SNS controls the switching of MOD based on the voltage across an external sense resistor in the current path of the battery. SNS is the reference potential for the TS and BAT pins.If SNS is connected to VSS, MOD switches (See Datasheet)", 10 TCO (in) "Input to set maximum allowable battery temperature. If the potential between TS and SNS is less than the voltage at the TCO input, then fast charge or top-off charge is terminated.", 11 MCV (in) "Input to set maximum single-cell equivalent voltage. If the voltage between BAT and SNS is greater than or equal to the voltage at the MCV input, then fast charge or top-off charge is inhibited.", 12 TEMP (out) "Push-pull output indicating temperature status. TEMP is low if the voltage at the TS pis not within the allowed range to start fast charge.", 13 CHG (out) "Push-pull output indicating charging status.See Figure 1.", 14 MOD (out) "MOD is a push/pull output that is used to control the charging current to the battery.MOD switches high to enable charging current flow and low to inhibit charging current flow.", 15 DIS (out) "Push-pull output used to control an external transistor to discharge the battery before charging.", 16 VCC (power) "5.0 V, +/-10% power input."

## BQ2003STRG4
designator U?
Switch-Mode NiCd / NiMH Battery Charger with Negative dV and dT / dt Termination, 4.5 V, 0 to 70 degC, 16-pin SOIC (DW), Green (RoHS & no Sb/Br); PartNumber: BQ2003STRG4; Manufacturer: Texas Instruments; Lead Acid: N; NiCd: Y; SubFamily: Battery Charge Management; Vin(Min)(V): 4.5; DatasheetVersion: SLUS095A; PackageVersion: revG, Jan-2011; PackageReference: DW16; PackageDescription: 16-Pin Small Outline Integrated Circuit, 10.3 x 7.5 mm, Pitch 1.27 mm Pitch; Supplier 1: Digi-Key; Supplier Part Number 1: BQ2003STRG4-ND; Supplier Part Number 3: 595-BQ2003STRG4; Eco-Plan: Green (RoHS & no Sb/Br); Li-Ion: N; Li-Polymer: N; NiMH: Y; Over Voltage Protection: N; Mounting Technology: Surface Mount; Code_JEDEC: MS-013-AA; ComponentLink1Description: Datasheet; ComponentLink1URL: http://www.ti.com/general/docs/lit/getliterature.tsp?genericPartNumber=BQ2003&fileType=pdf
footprint DW16_N (SOIC, 16-Leads, Body 10.3x7.5mm, Pitch 1.27mm, IPC Medium Density)
footprint DW16_L (SOIC, 16-Leads, Body 10.3x7.5mm, Pitch 1.27mm, IPC High Density)
footprint DW16_M (SOIC, 16-Leads, Body 10.3x7.5mm, Pitch 1.27mm, IPC Low Density)
pins: 1 CCMD (in) "These two inputs control the conditions that begin a new charge cycle and enable discharge-before-charge. See Table 1.", 2 DCMD (in) "These two inputs control the conditions that begin a new charge cycle and enable discharge-before-charge. See Table 1.", 3 DVEN (in) "This input enales/disables -deltaV charge termination.If DVEN is high, the -deltaV test is enabled.If DVEN is low, -deltaV test is disabled. The state of DVEN may be changed at any time.", 4 TM1 (in) "TM1 is three-state input that configure the fast charge safety timer, -deltaV holdoff time, and that enhance/disable top-off.See Table 2.", 5 TM2 (in) "TM2 is three-state input that configure the fast charge safety timer, -deltaV holdoff time, and that enhance/disable top-off.See Table 2.", 6 TS (in) "Input, referenced to SNS, for an external thermistor monitoring battery temperature.", 7 BAT (in) "The battery voltage sense input, referenced to SNS. This is created by a high-impedance resistor divider network connected between the positive and the negative terminals of the battery.", 8 VSS (power) "Ground", 9 SNS (in) "SNS controls the switching of MOD based on the voltage across an external sense resistor in the current path of the battery. SNS is the reference potential for the TS and BAT pins.If SNS is connected to VSS, MOD switches (See Datasheet)", 10 TCO (in) "Input to set maximum allowable battery temperature. If the potential between TS and SNS is less than the voltage at the TCO input, then fast charge or top-off charge is terminated.", 11 MCV (in) "Input to set maximum single-cell equivalent voltage. If the voltage between BAT and SNS is greater than or equal to the voltage at the MCV input, then fast charge or top-off charge is inhibited.", 12 TEMP (out) "Push-pull output indicating temperature status. TEMP is low if the voltage at the TS pis not within the allowed range to start fast charge.", 13 CHG (out) "Push-pull output indicating charging status.See Figure 1.", 14 MOD (out) "MOD is a push/pull output that is used to control the charging current to the battery.MOD switches high to enable charging current flow and low to inhibit charging current flow.", 15 DIS (out) "Push-pull output used to control an external transistor to discharge the battery before charging.", 16 VCC (power) "5.0 V, +/-10% power input."